# Altium footprint library Tag-Connect.PcbLib: 6 footprints
Each footprint in its own frame and in the unit in brackets; x right, y up, seen from the top. Pads: shape width x height; smd on the part's side, far side on the other; paste and mask are expansions set on the pad; w line width, h text height; cw(c..) or ccw(c..) is an arc to the next point about the centre after c.
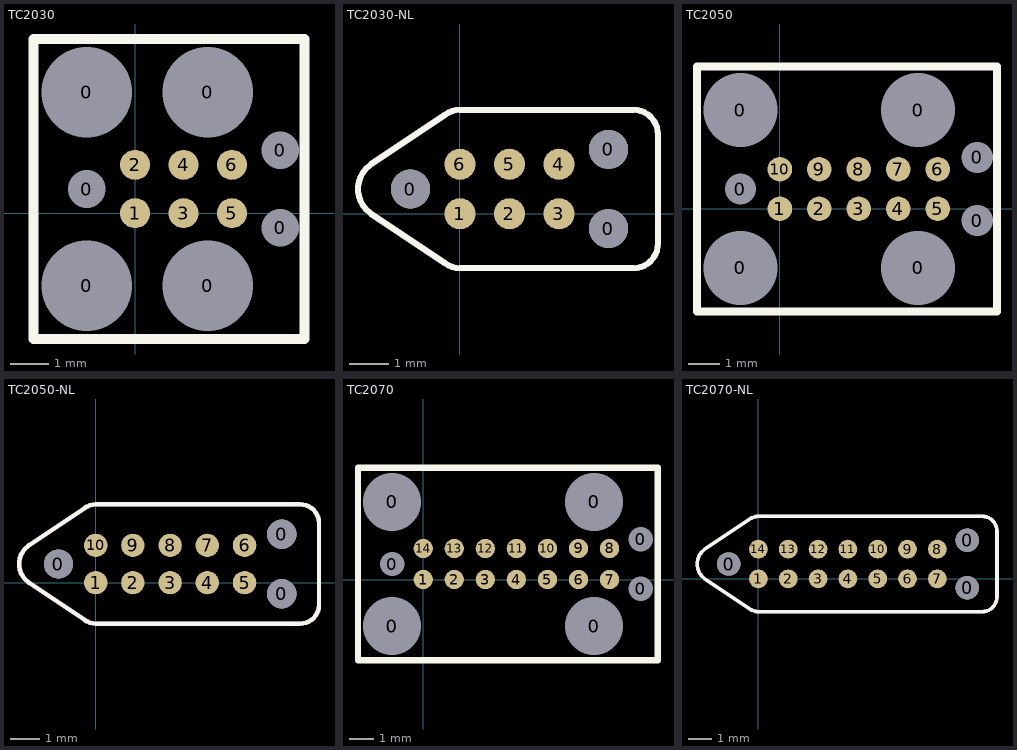
[diagram p0: the footprints below, top view; thin cyan lines are the x and y axes]

## TC2030 [mm]
pads (13):
  round 2.3 hole 2.375 unplated: 0(-1.27,-1.905) 0(-1.27,3.175) 0(1.905,-1.905) 0(1.905,3.175)
  round 0.9 hole 0.995 unplated: 0(-1.27,0.635) 0(3.81,-0.381) 0(3.81,1.651)
  round 0.79 smd paste-0.39: 1(0,0) 2(0,1.27) 3(1.27,0) 4(1.27,1.27) 5(2.54,0) 6(2.54,1.27)
Top Overlay:
  lines w0.254: -2.667,-3.302 -2.667,4.572 4.445,4.572 4.445,-3.302 -2.667,-3.302

## TC2030-NL [mm]
pads (9):
  round 1 hole 1 paste-1.1: 0(-1.27,0.635) 0(3.81,-0.381) 0(3.81,1.651)
  round 0.8 smd paste-0.9: 1(0,0) 2(1.27,0) 3(2.54,0) 4(2.54,1.27) 5(1.27,1.27) 6(0,1.27)
Top Overlay:
  lines w0.152: -2.311,0.025 cw(c-1.854,0.635) -2.311,1.245 ; -2.286,0 -0.381,-1.27 ccw(c0,-0.762) 0,-1.397 4.445,-1.397 ccw(c4.445,-0.762) 5.08,-0.762 5.08,2.032 ccw(c4.445,2.032) 4.445,2.667 0,2.667 ccw(c0,2.032) -0.381,2.54 -2.286,1.27
Mechanical 1:
  lines w0.152: -2.311,0.025 cw(c-1.854,0.635) -2.311,1.245 ; -2.286,0 -0.381,-1.27 ccw(c0,-0.762) 0,-1.397 4.445,-1.397 ccw(c4.445,-0.762) 5.08,-0.762 5.08,2.032 ccw(c4.445,2.032) 4.445,2.667 0,2.667 ccw(c0,2.032) -0.381,2.54 -2.286,1.27
3D body: height 6.35, standoff 0, extent -2.667,-1.397 5.08,2.667

## TC2050 [mm]
pads (17):
  round 2.3 hole 2.375 unplated: 0(-1.27,-1.905) 0(-1.27,3.175) 0(4.445,-1.905) 0(4.445,3.175)
  round 0.9 hole 1 unplated: 0(-1.27,0.635) 0(6.35,-0.38) 0(6.35,1.65)
  round 0.79 smd paste-0.39: 1(0,0) 2(1.27,0) 3(2.54,0) 4(3.81,0) 5(5.08,0) 6(5.08,1.27) 7(3.81,1.27) 8(2.54,1.27) 9(1.27,1.27) 10(0,1.27)
Top Overlay:
  lines w0.254: -2.667,-3.302 -2.667,4.572 6.985,4.572 6.985,-3.302 -2.667,-3.302

## TC2050-NL [mm]
pads (13):
  round 1 hole 1 paste-1.1: 0(-1.27,0.635) 0(6.35,-0.381) 0(6.35,1.651)
  round 0.8 smd paste-0.9: 1(0,0) 2(1.27,0) 3(2.54,0) 4(3.81,0) 5(5.08,0) 6(5.08,1.27) 7(3.81,1.27) 8(2.54,1.27) 9(1.27,1.27) 10(0,1.27)
Top Overlay:
  lines w0.152: -2.311,0.025 cw(c-1.854,0.635) -2.311,1.245 ; -2.286,0 -0.381,-1.27 ccw(c0,-0.762) 0,-1.397 6.985,-1.397 ccw(c6.985,-0.762) 7.62,-0.762 7.62,2.032 ccw(c6.985,2.032) 6.985,2.667 0,2.667 ccw(c0,2.032) -0.381,2.54 -2.286,1.27
Mechanical 1:
  lines w0.152: -2.311,0.025 cw(c-1.854,0.635) -2.311,1.245 ; -2.286,0 -0.381,-1.27 ccw(c0,-0.762) 0,-1.397 6.985,-1.397 ccw(c6.985,-0.762) 7.62,-0.762 7.62,2.032 ccw(c6.985,2.032) 6.985,2.667 0,2.667 ccw(c0,2.032) -0.381,2.54 -2.286,1.27
3D body: height 6.35, standoff 0, extent -2.667,-1.397 7.62,2.667

## TC2070 [mm]
pads (21):
  round 2.3 hole 2.375 unplated: 0(-1.27,-1.905) 0(-1.27,3.175) 0(6.985,-1.905) 0(6.985,3.175)
  round 0.9 hole 1 unplated: 0(-1.27,0.635) 0(8.89,-0.381) 0(8.89,1.651)
  round 0.79 smd paste-0.39: 1(0,0) 2(1.27,0) 3(2.54,0) 4(3.81,0) 5(5.08,0) 6(6.35,0) 7(7.62,0) 8(7.62,1.27) 9(6.35,1.27) 10(5.08,1.27) 11(3.81,1.27) 12(2.54,1.27) 13(1.27,1.27) 14(0,1.27)
Top Overlay:
  lines w0.254: 9.59,-3.302 9.59,4.572 ; 9.6,-3.302 -2.667,-3.302 -2.667,4.572 9.6,4.572

## TC2070-NL [mm]
pads (17):
  round 1 hole 1 paste-1.1: 0(-1.27,0.635) 0(8.89,-0.381) 0(8.89,1.651)
  round 0.8 smd paste-0.9: 1(0,0) 2(1.27,0) 3(2.54,0) 4(3.81,0) 5(5.08,0) 6(6.35,0) 7(7.62,0) 8(7.62,1.27) 9(6.35,1.27) 10(5.08,1.27) 11(3.81,1.27) 12(2.54,1.27) 13(1.27,1.27) 14(0,1.27)
Top Overlay:
  lines w0.152: -2.311,0.025 cw(c-1.854,0.635) -2.311,1.245 ; -2.286,0 -0.381,-1.27 ccw(c0,-0.762) 0,-1.397 9.525,-1.397 ccw(c9.525,-0.762) 10.16,-0.762 10.16,2.032 ccw(c9.525,2.032) 9.525,2.667 0,2.667 ccw(c0,2.032) -0.381,2.54 -2.286,1.27
Mechanical 1:
  lines w0.152: -2.311,0.025 cw(c-1.854,0.635) -2.311,1.245 ; -2.286,0 -0.381,-1.27 ccw(c0,-0.762) 0,-1.397 9.525,-1.397 ccw(c9.525,-0.762) 10.16,-0.762 10.16,2.032 ccw(c9.525,2.032) 9.525,2.667 0,2.667 ccw(c0,2.032) -0.381,2.54 -2.286,1.27
3D body: height 6.35, standoff 0, extent -2.667,-1.397 10.16,2.667